# Altium footprint library 1206_R.PcbLib: 1 footprints
Each footprint in its own frame and in the unit in brackets; x right, y up, seen from the top. Pads: shape width x height; smd on the part's side, far side on the other; paste and mask are expansions set on the pad; w line width, h text height; cw(c..) or ccw(c..) is an arc to the next point about the centre after c.
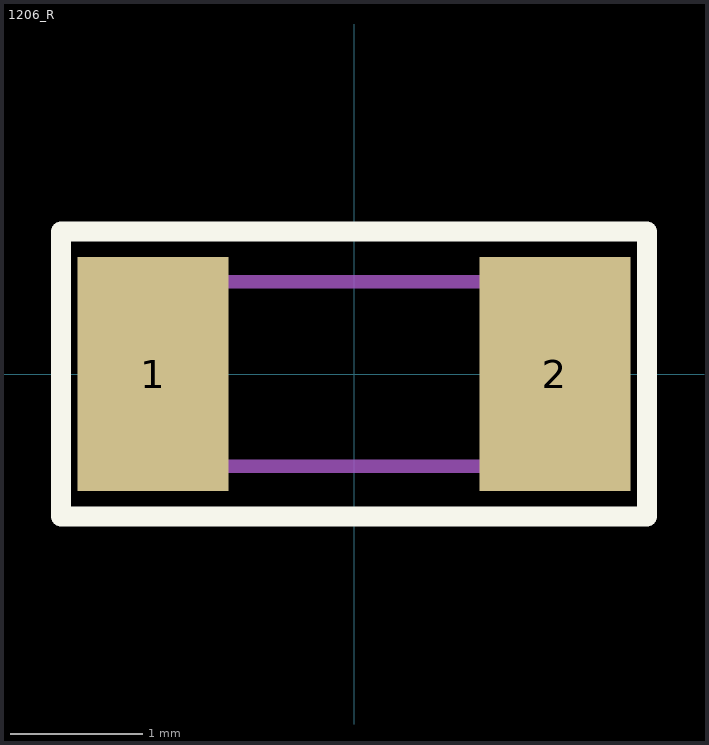
[diagram p0: the footprint, top view; thin cyan lines are the x and y axes]

## 1206_R [mil]
pads (2):
  rect 45x70 smd: 1(-60,0) 2(60,0)
Top Overlay:
  lines w6: -87.5,-42.5 -87.5,42.5 87.5,42.5 87.5,-42.5 -87.5,-42.5
Mechanical 13:
  lines w3.94: -60,-27.56 -60,27.56 ; -60,-27.56 60,-27.56 ; -60,-27.56 -70.87,-27.56 -70.87,27.56 -60,27.56 ; -60,27.56 60,27.56 ; 60,-27.56 60,27.56 ; 60,-27.56 70.87,-27.56 70.87,27.56 60,27.56
3D body: height 29.53, standoff 0, extent 60.02,-27.54 70.85,27.54
3D body: height 29.53, standoff 0, extent -59.98,-27.54 59.98,27.54
3D body: height 29.53, standoff 0, extent -70.85,-27.54 -60.02,27.54